# Altium footprint library DIOM780X590X239L125X300.PcbLib: 1 footprints
Each footprint in its own frame and in the unit in brackets; x right, y up, seen from the top. Pads: shape width x height; smd on the part's side, far side on the other; paste and mask are expansions set on the pad; w line width, h text height; cw(c..) or ccw(c..) is an arc to the next point about the centre after c.
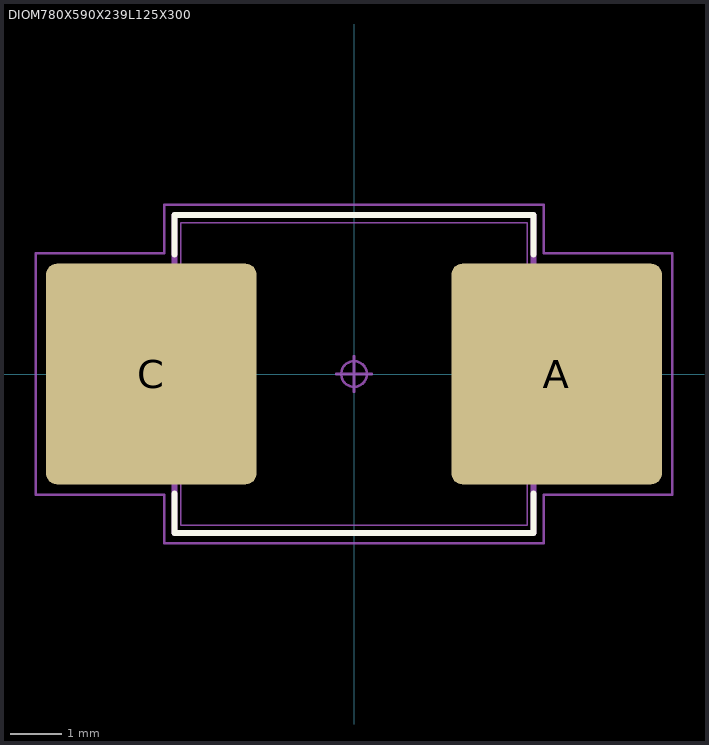
[diagram p0: the footprint, top view; thin cyan lines are the x and y axes]

## DIOM780X590X239L125X300 [mm] "Diode, Molded Body; 6.75 mm L X 5.90 mm W X 2.39 mm H body"
height 2.39
pads (2):
  rrect10% 4.1x4.3 smd: A(3.95,0) C(-3.95,0)
Top Overlay:
  lines w0.12: -3.5,-2.33 -3.5,-3.1 3.5,-3.1 3.5,-2.33 ; -3.5,2.33 -3.5,3.1 3.5,3.1 3.5,2.33
Mechanical 3:
  lines w0.12: -3.5,-3.1 3.5,-3.1 3.5,3.1 -3.5,3.1 -3.5,-3.1
Mechanical 5:
  lines w0.025: -3.9,-1.5 -3.9,1.5 -2.65,1.5 -2.65,-1.5 -3.9,-1.5 ; 2.65,-1.5 3.9,-1.5 3.9,1.5 2.65,1.5 2.65,-1.5
Mechanical 7:
  circle w0.05: c0,0 r0.25
  lines w0.025: -3.375,-2.95 3.375,-2.95 3.375,2.95 -3.375,2.95 -3.375,-2.95
  lines w0.05: -0.35,0 0.35,0 ; 0,-0.35 0,0.35 ; -6.2,-2.35 -3.7,-2.35 -3.7,-3.3 3.7,-3.3 3.7,-2.35 6.2,-2.35 6.2,2.35 3.7,2.35 3.7,3.3 -3.7,3.3 -3.7,2.35 -6.2,2.35 -6.2,-2.35
3D body "DIOM780X590X239L125X300.STEP": height 2.39, standoff 0, extent -3.9,-2.95 3.9,2.95